# EAGLE library part EC12PLRGB (library EC12)
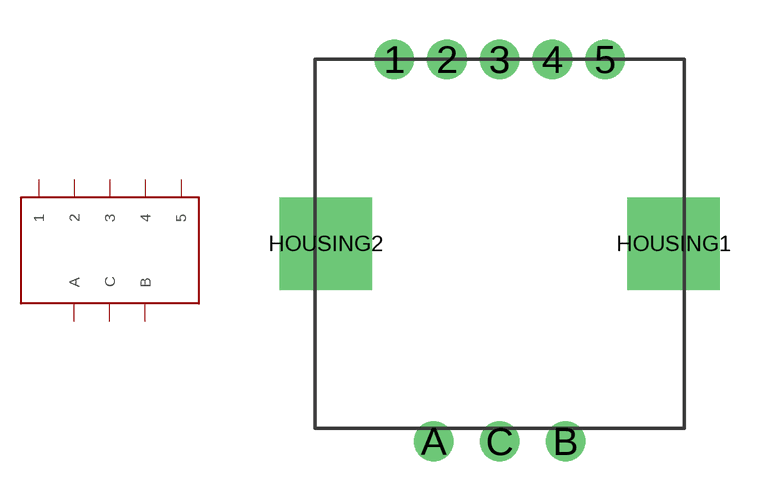
[diagram p0: symbol with the pads of EL1296RGB; footprint EL1296RGB]

Designator prefix -

## EC12PLRGB  [EL1296RGB]
1  1
2  2
3  3
4  4
5  5
A  A
B  B
C  C

## Footprint EL1296RGB (pad centres in mm)
drill 1: 1 -4,7; 2 -2,7; 3 0,7; 4 2,7; 5 4,7; A -2.5,-7.5; B 2.5,-7.5; C 0,-7.5
drill 2.5 square: HOUSING1 6.6,0; HOUSING2 -6.6,0